# Altium footprint library 0805_LED_S3.PcbLib: 1 footprints
Each footprint in its own frame and in the unit in brackets; x right, y up, seen from the top. Pads: shape width x height; smd on the part's side, far side on the other; paste and mask are expansions set on the pad; w line width, h text height; cw(c..) or ccw(c..) is an arc to the next point about the centre after c.
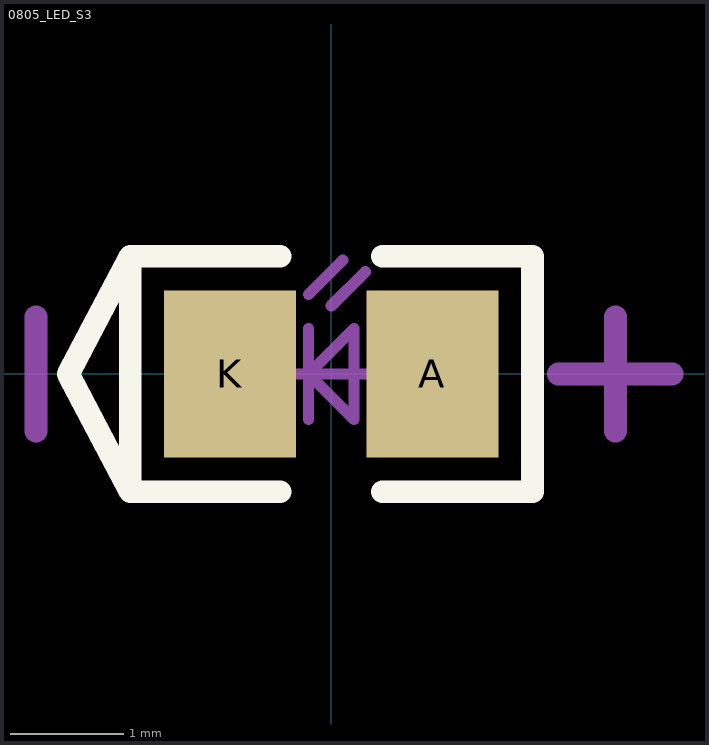
[diagram p0: the footprint, top view; thin cyan lines are the x and y axes]

## 0805_LED_S3 [mm]
pads (2):
  rect 1.16x1.47 smd: A(0.89,0) K(-0.89,0)
Top Overlay:
  lines w0.2: -0.45,-1.035 -1.77,-1.035 ; -0.45,1.035 -1.77,1.035 ; 0.45,-1.035 1.77,-1.035 1.77,1.035 0.45,1.035 ; -1.77,-1.035 -2.315,0 -1.77,1.035 ; -1.77,-1.035 -1.77,1.035
Mechanical 13:
  lines w0.1: -0.4,0 0.4,0 ; -0.2,-0.4 -0.2,0.4 ; -0.2,0.7 0.1,1 ; 0,0.6 0.3,0.9 ; -0.2,0 0.2,-0.4 0.2,0.4 -0.2,0
Mechanical 15:
  lines w0.203: -2.6,-0.5 -2.6,0.5 ; 2,0 3,0 ; 2.5,-0.5 2.5,0.5
3D body: height 1.1, standoff 0, extent -1.01,-0.625 1.01,0.625